# Altium footprint library B0505S2W.PcbLib: 1 footprints
Each footprint in its own frame and in the unit in brackets; x right, y up, seen from the top. Pads: shape width x height; smd on the part's side, far side on the other; paste and mask are expansions set on the pad; w line width, h text height; cw(c..) or ccw(c..) is an arc to the next point about the centre after c.
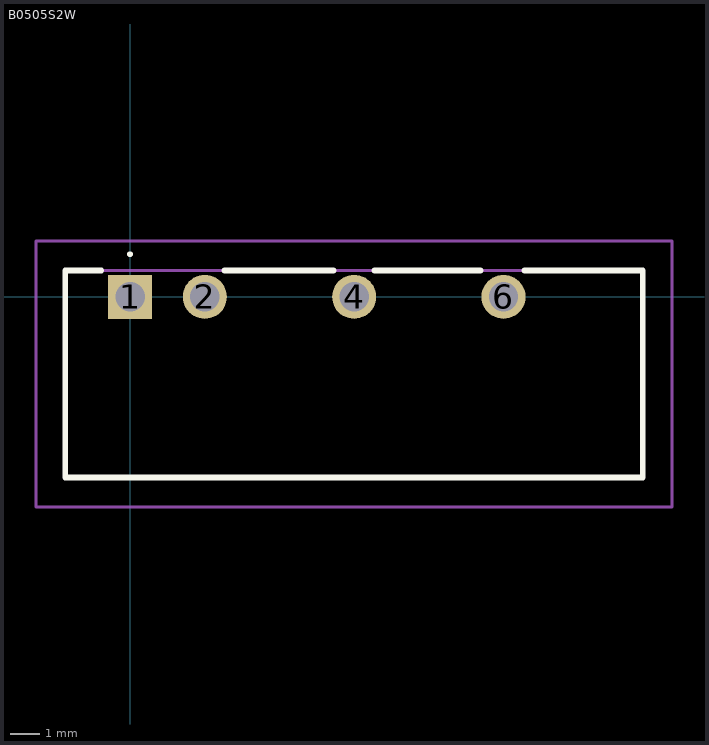
[diagram p0: the footprint, top view; thin cyan lines are the x and y axes]

## B0505S2W [mm]
pads (4):
  rect 1.5x1.5 hole 1: 1(0,0)
  round 1.5 hole 1: 2(2.54,0) 4(7.62,0) 6(12.7,0)
Top Overlay:
  lines w0.1: -0.005,1.4 cw(c-0.005,1.45) -0.005,1.5 ; -0.005,1.4 -0.005,1.4 ; -0.005,1.4 ccw(c-0.005,1.45) -0.005,1.5 ; -0.005,1.5 -0.005,1.5
  lines w0.2: -0.985,0.9 -2.21,0.9 -2.21,-6.15 17.44,-6.15 17.44,0.9 13.415,0.9 ; 3.215,0.9 6.915,0.9 ; 8.315,0.9 11.915,0.9
Mechanical 15:
  lines w0.1: -2.21,-6.15 17.44,-6.15 17.44,0.9 -2.21,0.9 -2.21,-6.15
Mechanical 20:
  lines w0.1: -3.21,-7.15 18.44,-7.15 18.44,1.9 -3.21,1.9 -3.21,-7.15